# Altium schematic symbol library IND - Power Fixed Inductors (Through Hole).SchLib: 1 symbol
Pins are listed as number, name and electrical type; pins without a type are passive.

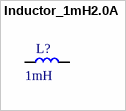
[diagram p0: symbol Inductor_1mH2.0A]

## Inductor_1mH2.0A
designator L?, comment 1mH
Fixed Inductors 1mH 2.0A
footprint CYLN/D100/H125/LS50/Inductor (Dia 10mm, Heigh 12.5mm, Lead Space 5.0mm)
pins: 1, 2